# EAGLE library part CONN_RC522 (library DSPR)
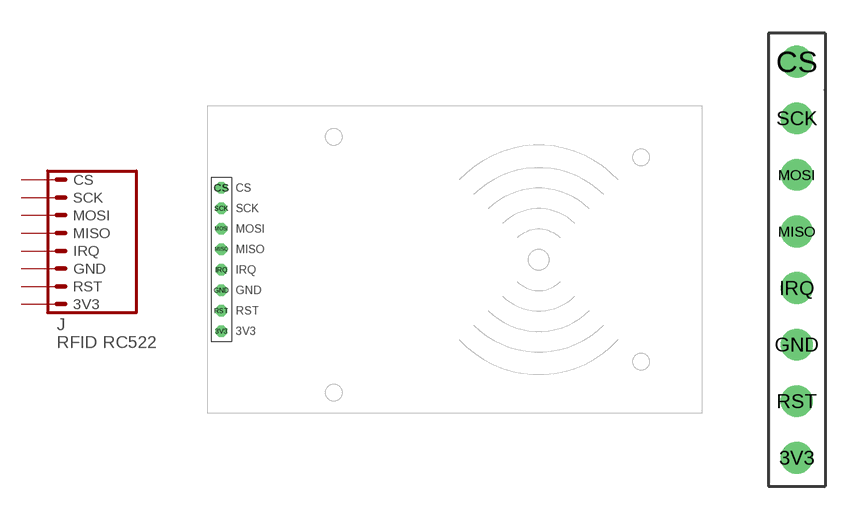
[diagram p6: symbol with the pads of CONN_RC522_MODULE; footprints CONN_RC522_MODULE, CONN_RC522_HEADER]

Designator prefix J

## CONN_RC522_BOARD  [CONN_RC522_MODULE]
3V3  3V3  pas
CS  CS  pas
GND  GND  pas
IRQ  IRQ  pas
MISO  MISO  pas
MOSI  MOSI  pas
RST  RST  pas
SCK  SCK  pas

## CONN_RC522HEADER  [CONN_RC522_HEADER]
Pads as for CONN_RC522_MODULE

## Footprint CONN_RC522_MODULE (pad centres in mm)
drill 0.813 pad 1.422 octagon: 3V3 0,-8.89; CS 0,8.89; GND 0,-3.81; IRQ 0,-1.27; MISO 0,1.27; MOSI 0,3.81; RST 0,-6.35; SCK 0,6.35

## Footprint CONN_RC522_HEADER (pad centres in mm)
drill 0.813 pad 1.422: 3V3 0,-8.89; CS 0,8.89; GND 0,-3.81; IRQ 0,-1.27; MISO 0,1.27; MOSI 0,3.81; RST 0,-6.35; SCK 0,6.35